# EAGLE library part ALPS_EC11D (library mod_eagle_library_switches)
ALPS EC11D rotary switch
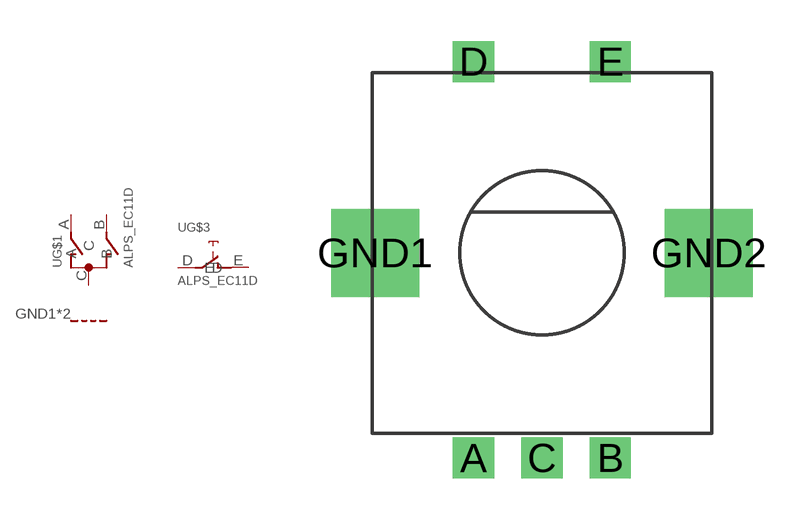
[diagram p0: symbol with the pads of ALPS_EC11D; footprint ALPS_EC11D]

Designator prefix -; gates G$1=ENCODER G$2=EARTH G$3=SWITCH

## ALPS_EC11D  [ALPS_EC11D]
A  G$1:A  pas
B  G$1:B  pas
C  G$1:C  pas
D  G$3:D  pas
E  G$3:E  pas
GND1  G$2:G  pas
GND2  G$2:G  pas

## Footprint ALPS_EC11D (pad centres in mm)
ALPS EC11D EC11D series with push-on switch
drill 1 square: A -2.5,-7.5; B 2.5,-7.5; C 0,-7.5; D -2.5,7; E 2.5,7
drill 2.2 square: GND1 -6.1,0; GND2 6.1,0